# Altium integrated library NSC Voltage Controlled Amplifier.IntLib: 2 symbols
Pins are listed as number, name and electrical type; pins without a type are passive.

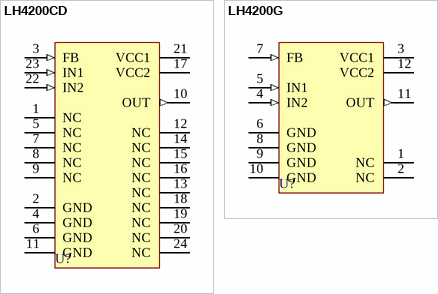
[diagram p0: symbols LH4200CD to LH4200G]

## LH4200CD
designator U?
General-Purpose GaAs FET Amplifier; ComponentAvailability: Obsolete; Published: 15-Apr-2002; LatestRevisionDate: 06-Jun-2005; LatestRevisionNote: Stylized 3D Model Added.; DatasheetVersion: 1989; PackageVersion: 1989; PackageReference: D24D; Publisher: Altium Limited; PackageDescription: DIP; 24 Leads; Row Spacing 15.24 mm; Pitch 2.54 mm; ComponentLink1Description: Manufacturer Link; ComponentLink1URL: http://www.national.com/; ComponentLink2Description: Discontinuation Notice; ComponentLink2URL: http://www.national.com/obs/obsolescence.txt
footprint D24D (DIP; 24 Leads; Row Spacing 15.24 mm; Pitch 2.54 mm)
3D model D24D (DIP; 24 Leads; Row Spacing 15.24 mm; Pitch 2.54 mm)
pins: 1 NC, 2 GND (power), 3 FB (in), 4 GND (power), 5 NC, 6 GND (power), 7 NC, 8 NC, 9 NC, 10 OUT (out), 11 GND (power), 12 NC, 13 NC, 14 NC, 15 NC, 16 NC, 17 VCC2 (power), 18 NC, 19 NC, 20 NC, 21 VCC1 (power), 22 IN2 (in), 23 IN1 (in), 24 NC

## LH4200G
designator U?
General-Purpose GaAs FET Amplifier; Published: 15-Apr-2002; DatasheetVersion: 1989; PackageVersion: 2000; PackageReference: G12B; Publisher: Altium Limited; PackageDescription: Can; 12 Leads; 10.16 mm Square Array; Lead Dia. 0.48 mm (max); ComponentLink1Description: Manufacturer Link; ComponentLink1URL: http://www.national.com/
footprint G12B (Can; 12 Leads; 10.16 mm Square Array; Lead Dia. 0.48 mm (max))
pins: 1 NC, 2 NC, 3 VCC1 (power), 4 IN2 (in), 5 IN1 (in), 6 GND (power), 7 FB (in), 8 GND (power), 9 GND (power), 10 GND (power), 11 OUT (out), 12 VCC2 (power)